# Altium footprint library connector.PcbLib: 1 footprints
Each footprint in its own frame and in the unit in brackets; x right, y up, seen from the top. Pads: shape width x height; smd on the part's side, far side on the other; paste and mask are expansions set on the pad; w line width, h text height; cw(c..) or ccw(c..) is an arc to the next point about the centre after c.
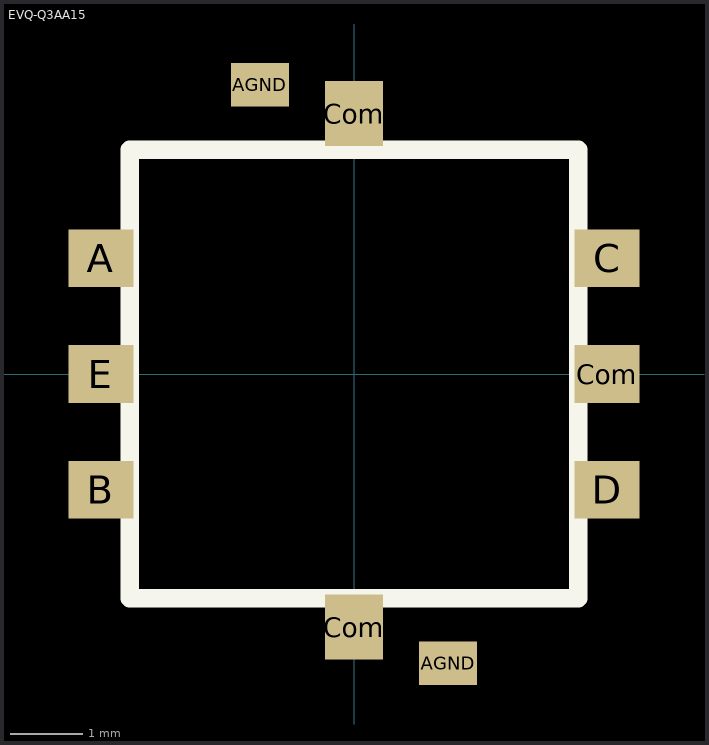
[diagram p0: the footprint, top view; thin cyan lines are the x and y axes]

## EVQ-Q3AA15 [mm] "SWITCH LT MULTI DIRECTION SMD"
pads (10):
  rect 0.9x0.8 smd: A(-3.5,1.6) B(-3.5,-1.6) C(3.5,1.6) Com(3.5,0) D(3.5,-1.6) E(-3.5,0)
  rect 0.8x0.6 smd: AGND(-1.3,4) AGND(1.3,-4)
  rect 0.8x0.9 smd: Com(0,-3.5) Com(0,3.6)
Top Overlay:
  lines w0.254: -3.1,-3.1 3.1,-3.1 3.1,3.1 -3.1,3.1 -3.1,-3.1
3D body: height 5, standoff -0.1, extent -3.9,-3.8 3.8,4.1